# Altium footprint library Connectors.PcbLib: 73 footprints (part 3 of 5)
Each footprint in its own frame and in the unit in brackets; x right, y up, seen from the top. Pads: shape width x height; smd on the part's side, far side on the other; paste and mask are expansions set on the pad; w line width, h text height; cw(c..) or ccw(c..) is an arc to the next point about the centre after c.
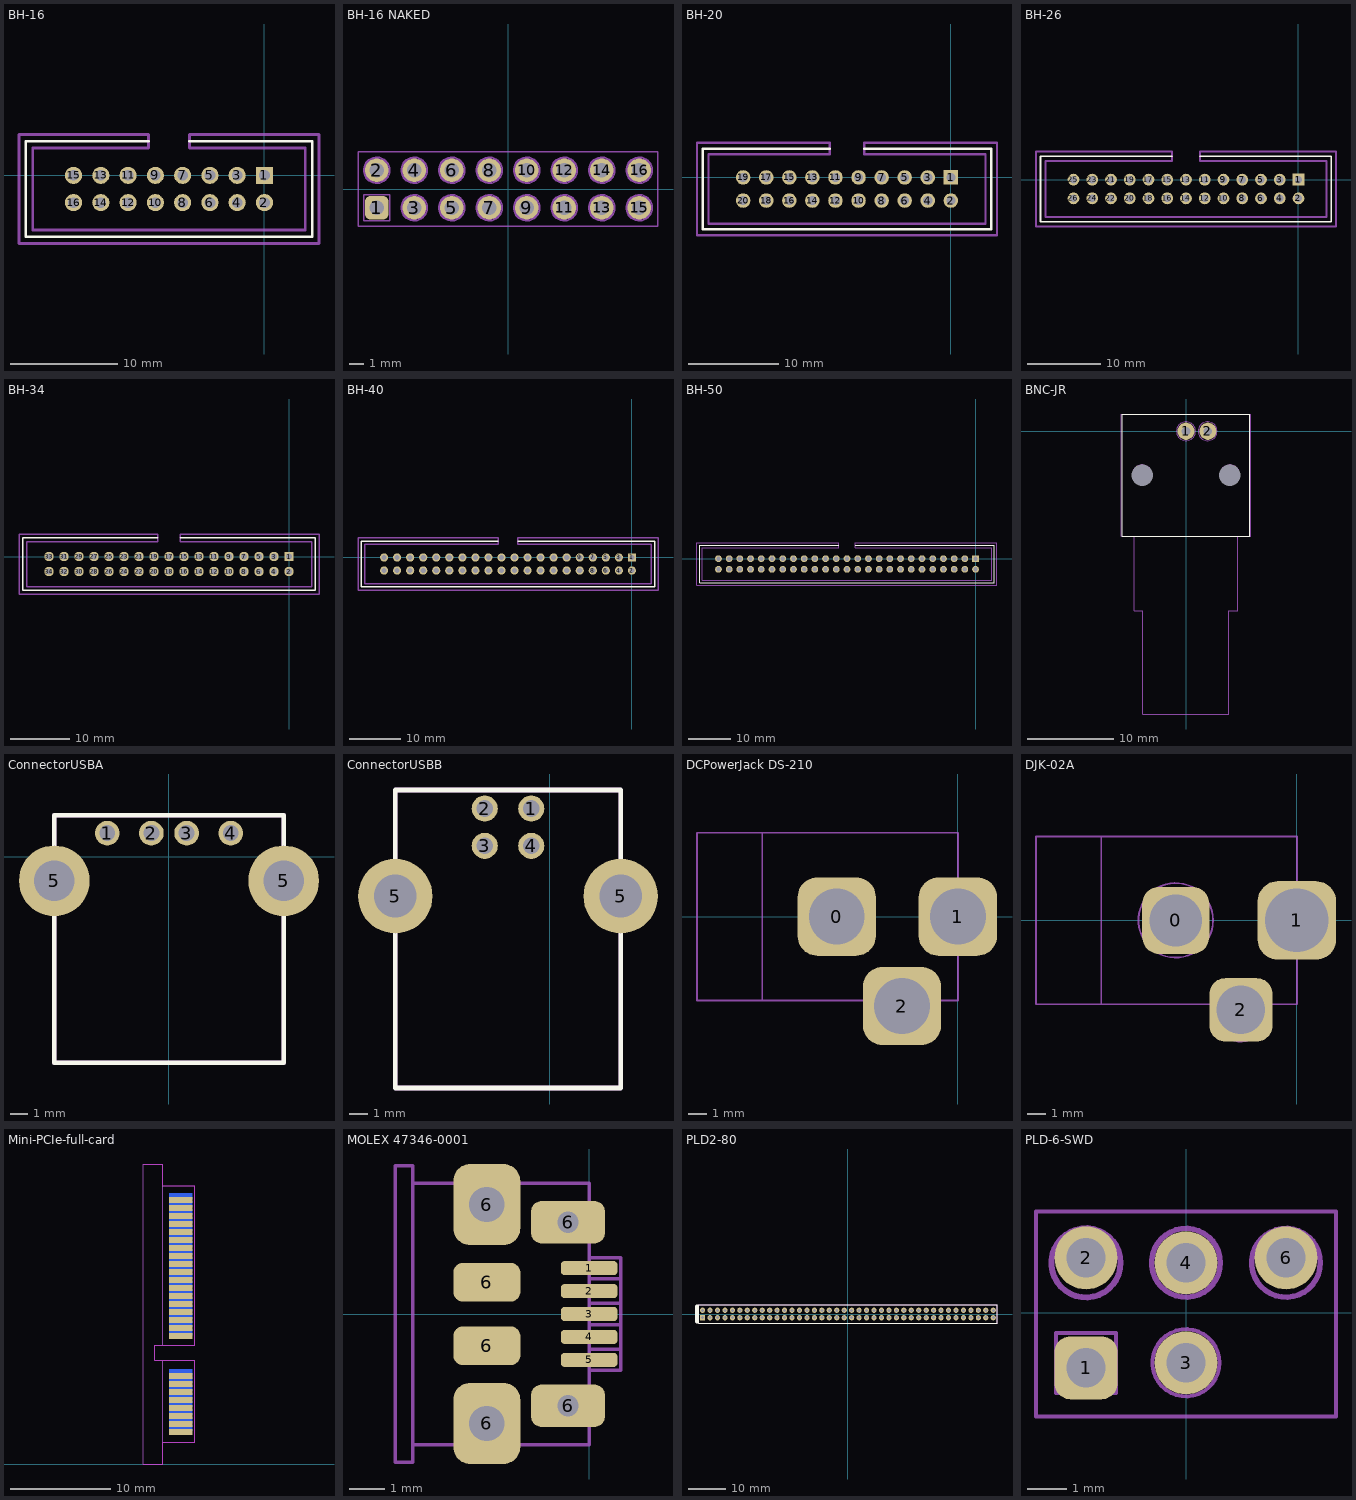
[diagram p2: the footprints below, top view; thin cyan lines are the x and y axes]

## BH-16 [mm]
height 11
pads (16):
  rect 1.6x1.6 hole 1: 1(0,0)
  round 1.6 hole 1: 2(0,-2.54) 3(-2.54,0) 4(-2.54,-2.54) 5(-5.08,0) 6(-5.08,-2.54) 7(-7.62,0) 8(-7.62,-2.54) 9(-10.16,0) 10(-10.16,-2.54) 11(-12.7,0) 12(-12.7,-2.54) 13(-15.24,0) 14(-15.24,-2.54) 15(-17.78,0) 16(-17.78,-2.54)
Top Overlay:
  lines w0.254: -10.795,3.175 -22.225,3.175 -22.225,-5.715 4.445,-5.715 4.445,3.175 -6.985,3.175
Mechanical 1:
  lines w0.254: -22.86,-6.35 5.08,-6.35 5.08,3.81 -6.985,3.81 -6.985,2.54 3.81,2.54 3.81,-5.08 -21.59,-5.08 -21.59,2.54 -10.795,2.54 -10.795,3.81 -22.86,3.81 -22.86,-6.35
3D body: height 10.2, standoff 0, extent -22.86,-6.35 5.08,3.81

## BH-16 NAKED [mm]
height 11
pads (16):
  rrect50% 1.6x1.6 hole 1: 1(-8.89,-1.27)
  round 1.6 hole 1: 2(-8.89,1.27) 3(-6.35,-1.27) 4(-6.35,1.27) 5(-3.81,-1.27) 6(-3.81,1.27) 7(-1.27,-1.27) 8(-1.27,1.27) 9(1.27,-1.27) 10(1.27,1.27) 11(3.81,-1.27) 12(3.81,1.27) 13(6.35,-1.27) 14(6.35,1.27) 15(8.89,-1.27) 16(8.89,1.27)
Mechanical 1:
  circle w0.1: c8.89,1.27 r0.803
  circle w0.1: c8.89,-1.27 r0.803
  circle w0.1: c6.35,1.27 r0.803
  circle w0.1: c6.35,-1.27 r0.803
  circle w0.1: c3.81,1.27 r0.803
  circle w0.1: c3.81,-1.27 r0.803
  circle w0.1: c1.27,-1.27 r0.803
  circle w0.1: c-1.27,-1.27 r0.803
  circle w0.1: c1.27,1.27 r0.803
  circle w0.1: c-1.27,1.27 r0.803
  circle w0.1: c-3.81,-1.27 r0.803
  circle w0.1: c-3.81,1.27 r0.803
  circle w0.1: c-6.35,-1.27 r0.803
  circle w0.1: c-6.35,1.27 r0.803
  circle w0.1: c-8.89,1.27 r0.803
  lines w0.1: -10.16,-2.54 -10.16,2.54 10.16,2.54 10.16,-2.54 -10.16,-2.54 ; -9.779,-2.159 -9.779,-0.381 -8.001,-0.381 -8.001,-2.159 -9.779,-2.159
Mechanical 4:
  circle w0.1: c8.89,1.27 r0.889
  circle w0.1: c8.89,-1.27 r0.889
  circle w0.1: c6.35,1.27 r0.889
  circle w0.1: c6.35,-1.27 r0.889
  circle w0.1: c3.81,1.27 r0.889
  circle w0.1: c3.81,-1.27 r0.889
  circle w0.1: c1.27,-1.27 r0.889
  circle w0.1: c-1.27,-1.27 r0.889
  circle w0.1: c-1.27,1.27 r0.889
  circle w0.1: c1.27,1.27 r0.889
  circle w0.1: c-3.81,1.27 r0.889
  circle w0.1: c-3.81,-1.27 r0.889
  circle w0.1: c-6.35,-1.27 r0.889
  circle w0.1: c-6.35,1.27 r0.889
  circle w0.1: c-8.89,1.27 r0.889
  lines w0.1: -9.779,-2.159 -9.779,-0.381 -8.001,-0.381 -8.001,-2.159 -9.779,-2.159
Mechanical 13:
  text ".Designator" at -2.54,2.54 h1
3D body: height 8, standoff 3, extent 8.402,-1.76 9.398,-0.762
3D body: height 8, standoff 3, extent 8.402,0.78 9.398,1.778
3D body: height 8, standoff 3, extent 5.862,0.78 6.858,1.778
3D body: height 8, standoff 3, extent 5.862,-1.76 6.858,-0.762
3D body: height 8, standoff 3, extent 3.322,0.78 4.318,1.778
3D body: height 8, standoff 3, extent 3.322,-1.76 4.318,-0.762
3D body: height 3, standoff 0, extent -10.16,-2.54 10.16,2.54
3D body: height 8, standoff 3, extent 0.782,-1.76 1.778,-0.762
3D body: height 8, standoff 3, extent -1.758,-1.76 -0.762,-0.762
3D body: height 8, standoff 3, extent -4.298,-1.76 -3.302,-0.762
3D body: height 8, standoff 3, extent -6.838,-1.76 -5.842,-0.762
3D body: height 8, standoff 3, extent -9.378,-1.76 -8.382,-0.762
3D body: height 8, standoff 3, extent 0.782,0.78 1.778,1.778
3D body: height 8, standoff 3, extent -1.758,0.78 -0.762,1.778
3D body: height 8, standoff 3, extent -4.298,0.78 -3.302,1.778
3D body: height 8, standoff 3, extent -6.838,0.78 -5.842,1.778
3D body: height 8, standoff 3, extent -9.378,0.78 -8.382,1.778

## BH-20 [mm]
height 11
pads (20):
  rect 1.6x1.6 hole 1: 1(0,0)
  round 1.6 hole 1: 2(0,-2.54) 3(-2.54,0) 4(-2.54,-2.54) 5(-5.08,0) 6(-5.08,-2.54) 7(-7.62,0) 8(-7.62,-2.54) 9(-10.16,0) 10(-10.16,-2.54) 11(-12.7,0) 12(-12.7,-2.54) 13(-15.24,0) 14(-15.24,-2.54) 15(-17.78,0) 16(-17.78,-2.54) 17(-20.32,0) 18(-20.32,-2.54) 19(-22.86,0) 20(-22.86,-2.54)
Top Overlay:
  lines w0.254: -13.335,3.175 -27.305,3.175 -27.305,-5.715 4.445,-5.715 4.445,3.175 -9.525,3.175
Mechanical 1:
  lines w0.254: -27.94,-6.35 -27.94,3.81 -13.335,3.81 -13.335,2.54 -26.67,2.54 -26.67,-5.08 3.81,-5.08 3.81,2.54 -9.525,2.54 -9.525,3.81 5.08,3.81 5.08,-6.35 -27.94,-6.35
3D body: height 10.2, standoff 0, extent -27.94,-6.35 5.08,3.81

## BH-26 [mm]
height 11
pads (26):
  rect 1.6x1.6 hole 1: 1(0,0)
  round 1.6 hole 1: 2(0,-2.54) 3(-2.54,0) 4(-2.54,-2.54) 5(-5.08,0) 6(-5.08,-2.54) 7(-7.62,0) 8(-7.62,-2.54) 9(-10.16,0) 10(-10.16,-2.54) 11(-12.7,0) 12(-12.7,-2.54) 13(-15.24,0) 14(-15.24,-2.54) 15(-17.78,0) 16(-17.78,-2.54) 17(-20.32,0) 18(-20.32,-2.54) 19(-22.86,0) 20(-22.86,-2.54) 21(-25.4,0) 22(-25.4,-2.54) 23(-27.94,0) 24(-27.94,-2.54) 25(-30.48,0) 26(-30.48,-2.54)
Top Overlay:
  lines w0.254: -17.145,3.175 -34.925,3.175 -34.925,-5.715 4.445,-5.715 4.445,3.175 -13.335,3.175
Mechanical 1:
  lines w0.254: -35.56,-6.35 -35.56,3.81 -17.145,3.81 -17.145,2.54 -34.29,2.54 -34.29,-5.08 3.81,-5.08 3.81,2.54 -13.335,2.54 -13.335,3.81 5.08,3.81 5.08,-6.35 -35.56,-6.35
3D body: height 10.2, standoff 0, extent -35.56,-6.35 5.08,3.81

## BH-34 [mm]
height 11
pads (34):
  rect 1.6x1.6 hole 1: 1(0,0)
  round 1.6 hole 1: 2(0,-2.54) 3(-2.54,0) 4(-2.54,-2.54) 5(-5.08,0) 6(-5.08,-2.54) 7(-7.62,0) 8(-7.62,-2.54) 9(-10.16,0) 10(-10.16,-2.54) 11(-12.7,0) 12(-12.7,-2.54) 13(-15.24,0) 14(-15.24,-2.54) 15(-17.78,0) 16(-17.78,-2.54) 17(-20.32,0) 18(-20.32,-2.54) 19(-22.86,0) 20(-22.86,-2.54) 21(-25.4,0) 22(-25.4,-2.54) 23(-27.94,0) 24(-27.94,-2.54) 25(-30.48,0) 26(-30.48,-2.54) 27(-33.02,0) 28(-33.02,-2.54) 29(-35.56,0) 30(-35.56,-2.54) 31(-38.1,0) 32(-38.1,-2.54) 33(-40.64,0) 34(-40.64,-2.54)
Top Overlay:
  lines w0.254: -22.225,3.175 -45.085,3.175 -45.085,-5.715 4.445,-5.715 4.445,3.175 -18.415,3.175
Mechanical 1:
  lines w0.254: -45.72,-6.35 -45.72,3.81 -22.225,3.81 -22.225,2.54 -44.45,2.54 -44.45,-5.08 3.81,-5.08 3.81,2.54 -18.415,2.54 -18.415,3.81 5.08,3.81 5.08,-6.35 -45.72,-6.35
3D body: height 10.2, standoff 0, extent -45.72,-6.35 5.08,3.81

## BH-40 [mm]
height 11
pads (40):
  rect 1.6x1.6 hole 1: 1(0,0)
  round 1.6 hole 1: 2(0,-2.54) 3(-2.54,0) 4(-2.54,-2.54) 5(-5.08,0) 6(-5.08,-2.54) 7(-7.62,0) 8(-7.62,-2.54) 9(-10.16,0) 10(-10.16,-2.54) 11(-12.7,0) 12(-12.7,-2.54) 13(-15.24,0) 14(-15.24,-2.54) 15(-17.78,0) 16(-17.78,-2.54) 17(-20.32,0) 18(-20.32,-2.54) 19(-22.86,0) 20(-22.86,-2.54) 21(-25.4,0) 22(-25.4,-2.54) 23(-27.94,0) 24(-27.94,-2.54) 25(-30.48,0) 26(-30.48,-2.54) 27(-33.02,0) 28(-33.02,-2.54) 29(-35.56,0) 30(-35.56,-2.54) 31(-38.1,0) 32(-38.1,-2.54) 33(-40.64,0) 34(-40.64,-2.54) 35(-43.18,0) 36(-43.18,-2.54) 37(-45.72,0) 38(-45.72,-2.54) 39(-48.26,0) 40(-48.26,-2.54)
Top Overlay:
  lines w0.254: -26.035,3.175 -52.705,3.175 -52.705,-5.715 4.445,-5.715 4.445,3.175 -22.225,3.175
Mechanical 1:
  lines w0.254: -53.34,-6.35 -53.34,3.81 -26.035,3.81 -26.035,2.54 -52.07,2.54 -52.07,-5.08 3.81,-5.08 3.81,2.54 -22.225,2.54 -22.225,3.81 5.08,3.81 5.08,-6.35 -53.34,-6.35
3D body: height 10.2, standoff 0, extent -53.34,-6.35 5.08,3.81

## BH-50 [mm]
height 11
pads (50):
  rect 1.6x1.6 hole 1: 1(0,0)
  round 1.6 hole 1: 2(0,-2.54) 3(-2.54,0) 4(-2.54,-2.54) 5(-5.08,0) 6(-5.08,-2.54) 7(-7.62,0) 8(-7.62,-2.54) 9(-10.16,0) 10(-10.16,-2.54) 11(-12.7,0) 12(-12.7,-2.54) 13(-15.24,0) 14(-15.24,-2.54) 15(-17.78,0) 16(-17.78,-2.54) 17(-20.32,0) 18(-20.32,-2.54) 19(-22.86,0) 20(-22.86,-2.54) 21(-25.4,0) 22(-25.4,-2.54) 23(-27.94,0) 24(-27.94,-2.54) 25(-30.48,0) 26(-30.48,-2.54) 27(-33.02,0) 28(-33.02,-2.54) 29(-35.56,0) 30(-35.56,-2.54) 31(-38.1,0) 32(-38.1,-2.54) 33(-40.64,0) 34(-40.64,-2.54) 35(-43.18,0) 36(-43.18,-2.54) 37(-45.72,0) 38(-45.72,-2.54) 39(-48.26,0) 40(-48.26,-2.54) 41(-50.8,0) 42(-50.8,-2.54) 43(-53.34,0) 44(-53.34,-2.54) 45(-55.88,0) 46(-55.88,-2.54) 47(-58.42,0) 48(-58.42,-2.54) 49(-60.96,0) 50(-60.96,-2.54)
Top Overlay:
  lines w0.254: -32.385,3.175 -65.405,3.175 -65.405,-5.715 4.445,-5.715 4.445,3.175 -28.575,3.175
Mechanical 1:
  lines w0.254: -66.04,-6.35 -66.04,3.81 -32.385,3.81 -32.385,2.54 -64.77,2.54 -64.77,-5.08 3.81,-5.08 3.81,2.54 -28.575,2.54 -28.575,3.81 5.08,3.81 5.08,-6.35 -66.04,-6.35
3D body: height 10.2, standoff 0, extent -66.04,-6.35 5.08,3.81

## BNC-JR [mm]
pads (4):
  round 0 hole 2.5: 0(-5.08,-5.08) 0(5.08,-5.08)
  round 2 hole 1: 1(0,0) 2(2.54,0)
Top Overlay:
  lines w0.1: -7.4,-12.2 -7.4,2 7.4,2 7.4,-12.2 -7.4,-12.2
Mechanical 1:
  lines w0.1: -6,-12.2 -6,-20.8 ; 6,-12.2 6,-20.776 5.976,-20.8 4.98,-20.8 4.98,-20.8 4.98,-32.8 -5,-32.8 -5,-20.8 -6,-20.8 ; -6,-20.8 -6,-20.8 ; -7.5,-12.2 -7.5,2 7.5,2 7.5,-12.2 -7.5,-12.2
Mechanical 4:
  circle w0.1: c-5.1,-5 r1.105
  circle w0.1: c5.1,-5 r1.105
  circle w0.1: c0,0 r1.105
  circle w0.1: c2.5,0 r1.105
Mechanical 13:
  text ".Designator" at -3.6,-8.8 h1
3D body: height 11.96, standoff 2, extent -5,-32.8 4.98,-20.8
3D body: height 12.95, standoff 1, extent -6,-20.8 5.976,-12.2
3D body: height 13, standoff 0, extent -7.4,-12.2 7.4,2

## ConnectorUSBA [mm]
height 7
pads (6):
  round 1.4 hole 0.9: 1(-3.5,1.35) 2(-1,1.35) 3(1,1.35) 4(3.5,1.35)
  round 4 hole 2.3: 5(-6.5,-1.35) 5(6.5,-1.35)
Top Overlay:
  lines w0.254: -6.5,-11.65 -6.5,2.35 6.5,2.35 6.5,-11.65 -6.5,-11.65
Mechanical 1:
  lines w0.254: -6.5,-11.65 6.5,-11.65 6.5,2.35 -6.5,2.35 -6.5,-11.65
3D body: height 7, standoff 0, extent -6.5,-11.65 6.5,2.35

## ConnectorUSBB [mm]
height 11.5
pads (6):
  round 1.4 hole 0.9: 1(-1,23) 2(-3.5,23) 3(-3.5,21) 4(-1,21)
  round 4 hole 2.3: 5(-8.3,18.3) 5(3.8,18.3)
Top Overlay:
  lines w0.254: -8.3,8 -8.3,24 3.8,24 3.8,8 -8.3,8
Mechanical 1:
  lines w0.254: -8.3,8 -8.3,24 3.8,24 3.8,8 -8.3,8
3D body: height 11.5, standoff 0, extent -8.3,8 3.8,24

## DCPowerJack DS-210 [mm]
pads (3):
  rrect50% 4.2x4.2 hole 3: 0(-6.5,0) 1(0,0) 2(-3,-4.8)
Mechanical 1:
  lines w0.1: -10.5,-4.5 -10.5,4.5 ; -14,-4.5 -14,4.5 0,4.5 0,-4.5 -14,-4.5
Mechanical 4:
  circle w0.1: c0,0 r2
  circle w0.1: c-3,-5 r1.5
  circle w0.1: c-6.5,0 r2
Mechanical 13:
  text ".Designator" at -9.1,2.7 h1
3D body: height 6, standoff 0, extent -4.2,-5 -1.8,-4.5
3D body: height 6, standoff 0, extent 0,-1.2 0.5,1.2
3D body: height 6, standoff 0, extent -10.5,-4.5 0,4.5
3D body: height 9.97, standoff 2, extent -10.5,-3.992 0,3.992
3D body: height 8.98, standoff 3, extent -14,-2.994 -10.5,2.994
3D body: height 11, standoff 0, extent -13.9,-4.5 -10.5,4.5

## DJK-02A [mm]
pads (3):
  rrect50% 3.6x3.6 hole 2.8: 0(-6.5,0)
  rrect50% 4.2x4.2 hole 3.4: 1(0,0)
  rrect50% 3.4x3.4 hole 2.6: 2(-3,-4.8)
Mechanical 1:
  lines w0.1: -10.5,-4.5 -10.5,4.5 ; -14,-4.5 -14,4.5 0,4.5 0,-4.5 -14,-4.5
Mechanical 4:
  circle w0.1: c0,0 r2
  circle w0.1: c-3,-5 r1.5
  circle w0.1: c-6.5,0 r2
Mechanical 13:
  text ".Designator" at -9.1,2.7 h1
3D body: height 6, standoff 0, extent -4.2,-5 -1.8,-4.5
3D body: height 6, standoff 0, extent 0,-1.2 0.5,1.2
3D body: height 6, standoff 0, extent -10.5,-4.5 0,4.5
3D body: height 9.97, standoff 2, extent -10.5,-3.992 0,3.992
3D body: height 8.98, standoff 3, extent -14,-2.994 -10.5,2.994
3D body: height 11, standoff 0, extent -13.9,-4.5 -10.5,4.5

## Mini-PCIe-full-card [mm]
pads (52):
  rect 2.3x0.6 smd: 1(49.55,3.2) 3(49.55,4) 5(49.55,4.8) 7(49.55,5.6) 9(49.55,6.4) 11(49.55,7.2) 13(49.55,8) 15(49.55,8.8) 17(49.55,12.8) 19(49.55,13.6) 21(49.55,14.4) 23(49.55,15.2) 25(49.55,16) 27(49.55,16.8) 29(49.55,17.6) 31(49.55,18.4) 33(49.55,19.2) 35(49.55,20) 37(49.55,20.8) 39(49.55,21.6) 41(49.55,22.4) 43(49.55,23.2) 45(49.55,24) 47(49.55,24.8) 49(49.55,25.6) 51(49.55,26.4)
  rect 2.3x0.6 smd far side: 2(49.55,3.6) 4(49.55,4.4) 6(49.55,5.2) 8(49.55,6) 10(49.55,6.8) 12(49.55,7.6) 14(49.55,8.4) 16(49.55,9.2) 18(49.55,13.2) 20(49.55,14) 22(49.55,14.8) 24(49.55,15.6) 26(49.55,16.4) 28(49.55,17.2) 30(49.55,18) 32(49.55,18.8) 34(49.55,19.6) 36(49.55,20.4) 38(49.55,21.2) 40(49.55,22) 42(49.55,22.8) 44(49.55,23.6) 46(49.55,24.4) 48(49.55,25.2) 50(49.55,26) 52(49.55,26.8)
Keep-Out Layer:
  lines w0.1: 45.8,0 47.75,0 47.75,2.15 50.95,2.15 50.95,10.4 46.95,10.4 46.95,11.9 50.95,11.9 50.95,27.85 47.75,27.85 47.75,29.95 ; 45.8,30 47.7,30
Mechanical 1:
  lines w0.1: 47.75,0 47.75,2.15 ; 47.75,10.35 47.75,2.15 ; 47.75,11.95 47.75,27.85 ; 47.75,29.95 47.75,27.85 ; 47.75,2.15 50.95,2.15 50.95,10.4 46.95,10.4 46.95,11.9 50.95,11.9 50.95,27.85 47.75,27.85
Mechanical 4:
  lines w0.1: 47.75,10.35 47.75,2.15 ; 47.75,11.95 47.75,27.85 ; 47.75,2.15 47.75,0 45.8,0 45.8,30 47.75,30 47.75,27.85 ; 47.75,2.15 50.95,2.15 50.95,10.4 46.95,10.4 46.95,11.9 50.95,11.9 50.95,27.85 47.75,27.85
Mechanical 32:
  lines w0.1: 47.75,0 47.75,2.15 50.95,2.15 50.95,10.4 46.95,10.4 46.95,11.9 50.95,11.9 50.95,27.85 47.75,27.85 47.75,29.95

## MOLEX 47346-0001 [mm]
pads (11):
  rrect50% 1.6x0.4 smd: 1(0,1.3) 2(0,0.65) 3(0,0) 4(0,-0.65) 5(0,-1.3)
  rrect50% 1.9x2.3 hole 1: 6(-2.9,-3.1) 6(-2.9,3.1)
  rrect50% 1.9x1.1 smd: 6(-2.9,-0.9) 6(-2.9,0.9)
  rrect50% 2.1x1.2 hole 0.6: 6(-0.6,2.6) 6(-0.6,-2.6)
Mechanical 1:
  lines w0.1: -3.4,-3.7 -3.4,-4 -2.4,-4 -2.4,-3.7 ; -3.4,3.7 -3.4,4 -2.4,4 -2.4,3.7 ; 0,-1.6 0.9,-1.6 0.9,1.6 0,1.6 ; 0,-1 0.9,-1 ; 0,-0.3 0.9,-0.3 ; 0,0.3 0.9,0.3 ; 0,1 0.9,1 ; -5,-3.7 -5,-4.2 -5.5,-4.2 -5.5,4.2 -5,4.2 -5,3.7 ; -5,-3.7 -5,3.7 ; -5,-3.7 0,-3.7 0,3.7 -5,3.7
Mechanical 13:
  text ".Designator" at -4.6,-0.7 h1
3D body: height 2.77, standoff -0.17, extent -5.48,-3.99 -0.05,3.99

## PLD2-80 [mm]
pads (80):
  rect 1.4x1.4 hole 0.8: 1(-39,-1)
  round 1.4 hole 0.8: 2(-39,1) 3(-37,-1) 4(-37,1) 5(-35,-1) 6(-35,1) 7(-33,-1) 8(-33,1) 9(-31,-1) 10(-31,1) 11(-29,-1) 12(-29,1) 13(-27,-1) 14(-27,1) 15(-25,-1) 16(-25,1) 17(-23,-1) 18(-23,1) 19(-21,-1) 20(-21,1) 21(-19,-1) 22(-19,1) 23(-17,-1) 24(-17,1) 25(-15,-1) 26(-15,1) 27(-13,-1) 28(-13,1) 29(-11,-1) 30(-11,1) 31(-9,-1) 32(-9,1) 33(-7,-1) 34(-7,1) 35(-5,-1) 36(-5,1) 37(-3,-1) 38(-3,1) 39(-1,-1) 40(-1,1) 41(1,-1) 42(1,1) 43(3,-1) 44(3,1) 45(5,-1) 46(5,1) 47(7,-1) 48(7,1) 49(9,-1) 50(9,1) 51(11,-1) 52(11,1) 53(13,-1) 54(13,1) 55(15,-1) 56(15,1) 57(17,-1) 58(17,1) 59(19,-1) 60(19,1) 61(21,-1) 62(21,1) 63(23,-1) 64(23,1) 65(25,-1) 66(25,1) 67(27,-1) 68(27,1) 69(29,-1) 70(29,1) 71(31,-1) 72(31,1) 73(33,-1) 74(33,1) 75(35,-1) 76(35,1) 77(37,-1) 78(37,1) 79(39,-1) 80(39,1)
Top Overlay:
  lines w0.254: -40,-2.5 40,-2.5 40,2.5 -40,2.5 -40,-2.5
  lines w1: -40.5,-2 -40.5,2
Mechanical 1:
  lines w0.254: -40,-2.5 40,-2.5 40,2.5 -40,2.5 -40,-2.5
3D body: height 5.5, standoff 0.1, extent -40,-2.5 40,2.5

## PLD-6-SWD [mm]
pads (5):
  rrect50% 1.6x1.6 hole 1: 1(-2.54,-1.397)
  round 1.6 hole 1: 2(-2.54,1.397) 3(0,-1.27) 4(0,1.27) 6(2.54,1.397)
Mechanical 1:
  circle w0.1: c-2.54,1.27 r0.906
  circle w0.1: c0,1.27 r0.894
  circle w0.1: c2.54,1.27 r0.894
  circle w0.1: c0,-1.27 r0.854
  lines w0.1: -3.81,-2.63 -3.81,2.57 3.81,2.57 3.81,-2.63 -3.81,-2.63 ; -3.302,-2.032 -1.778,-2.032 -1.778,-0.508 -3.302,-0.508 -3.302,-2.032
Mechanical 4:
  circle w0.1: c0,-1.27 r0.854
  circle w0.1: c2.54,1.27 r0.854
  circle w0.1: c0,1.27 r0.854
  circle w0.1: c-2.54,1.27 r0.854
  lines w0.1: -3.302,-2.032 -3.302,-0.508 -1.778,-0.508 -1.778,-2.032 -3.302,-2.032
Mechanical 13:
  text ".Designator" at -3.79,3.07 h1